# Altium footprint library Tyco 1-338068-0.PcbLib: 1 footprints
Each footprint in its own frame and in the unit in brackets; x right, y up, seen from the top. Pads: shape width x height; smd on the part's side, far side on the other; paste and mask are expansions set on the pad; w line width, h text height; cw(c..) or ccw(c..) is an arc to the next point about the centre after c.
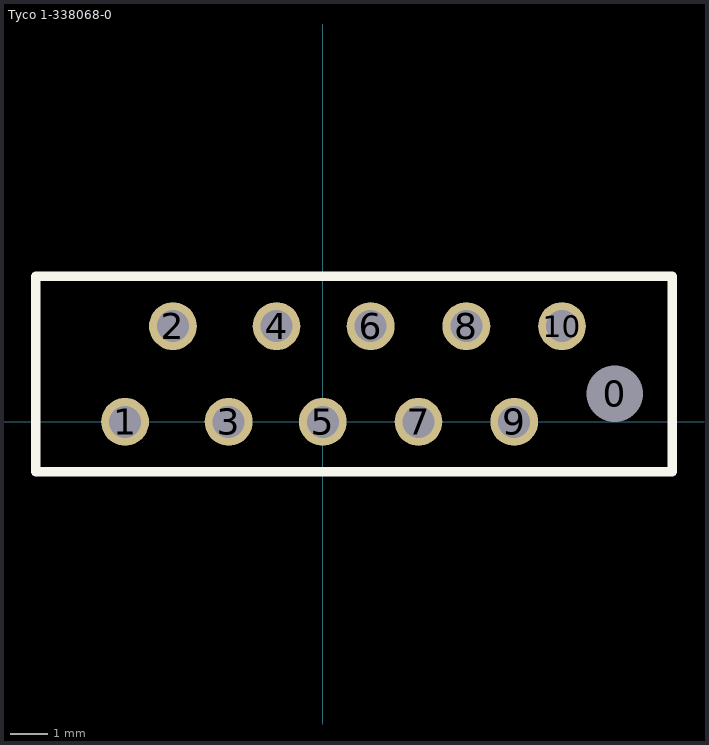
[diagram p0: the footprint, top view; thin cyan lines are the x and y axes]

## Tyco 1-338068-0 [mm] "10 position Micro-MaTch receptacle."
pads (11):
  round 1.27 hole 1.5: 0(7.75,0.74)
  round 1.27 hole 0.85: 1(-5.25,0) 2(-3.98,2.54) 3(-2.5,0) 4(-1.23,2.54) 5(0,0) 6(1.27,2.54) 7(2.54,0) 8(3.81,2.54) 9(5.08,0) 10(6.35,2.54)
Top Overlay:
  lines w0.254: -7.62,-1.33 9.275,-1.33 9.275,3.87 -7.62,3.87 -7.62,-1.33
3D body: height 4.01, standoff -3.09, extent -7.872,-1.205 9.298,3.795